# Altium footprint library Package_SO.PcbLib: 393 footprints (part 20 of 25)
Each footprint in its own frame and in the unit in brackets; x right, y up, seen from the top. Pads: shape width x height; smd on the part's side, far side on the other; paste and mask are expansions set on the pad; w line width, h text height; cw(c..) or ccw(c..) is an arc to the next point about the centre after c.
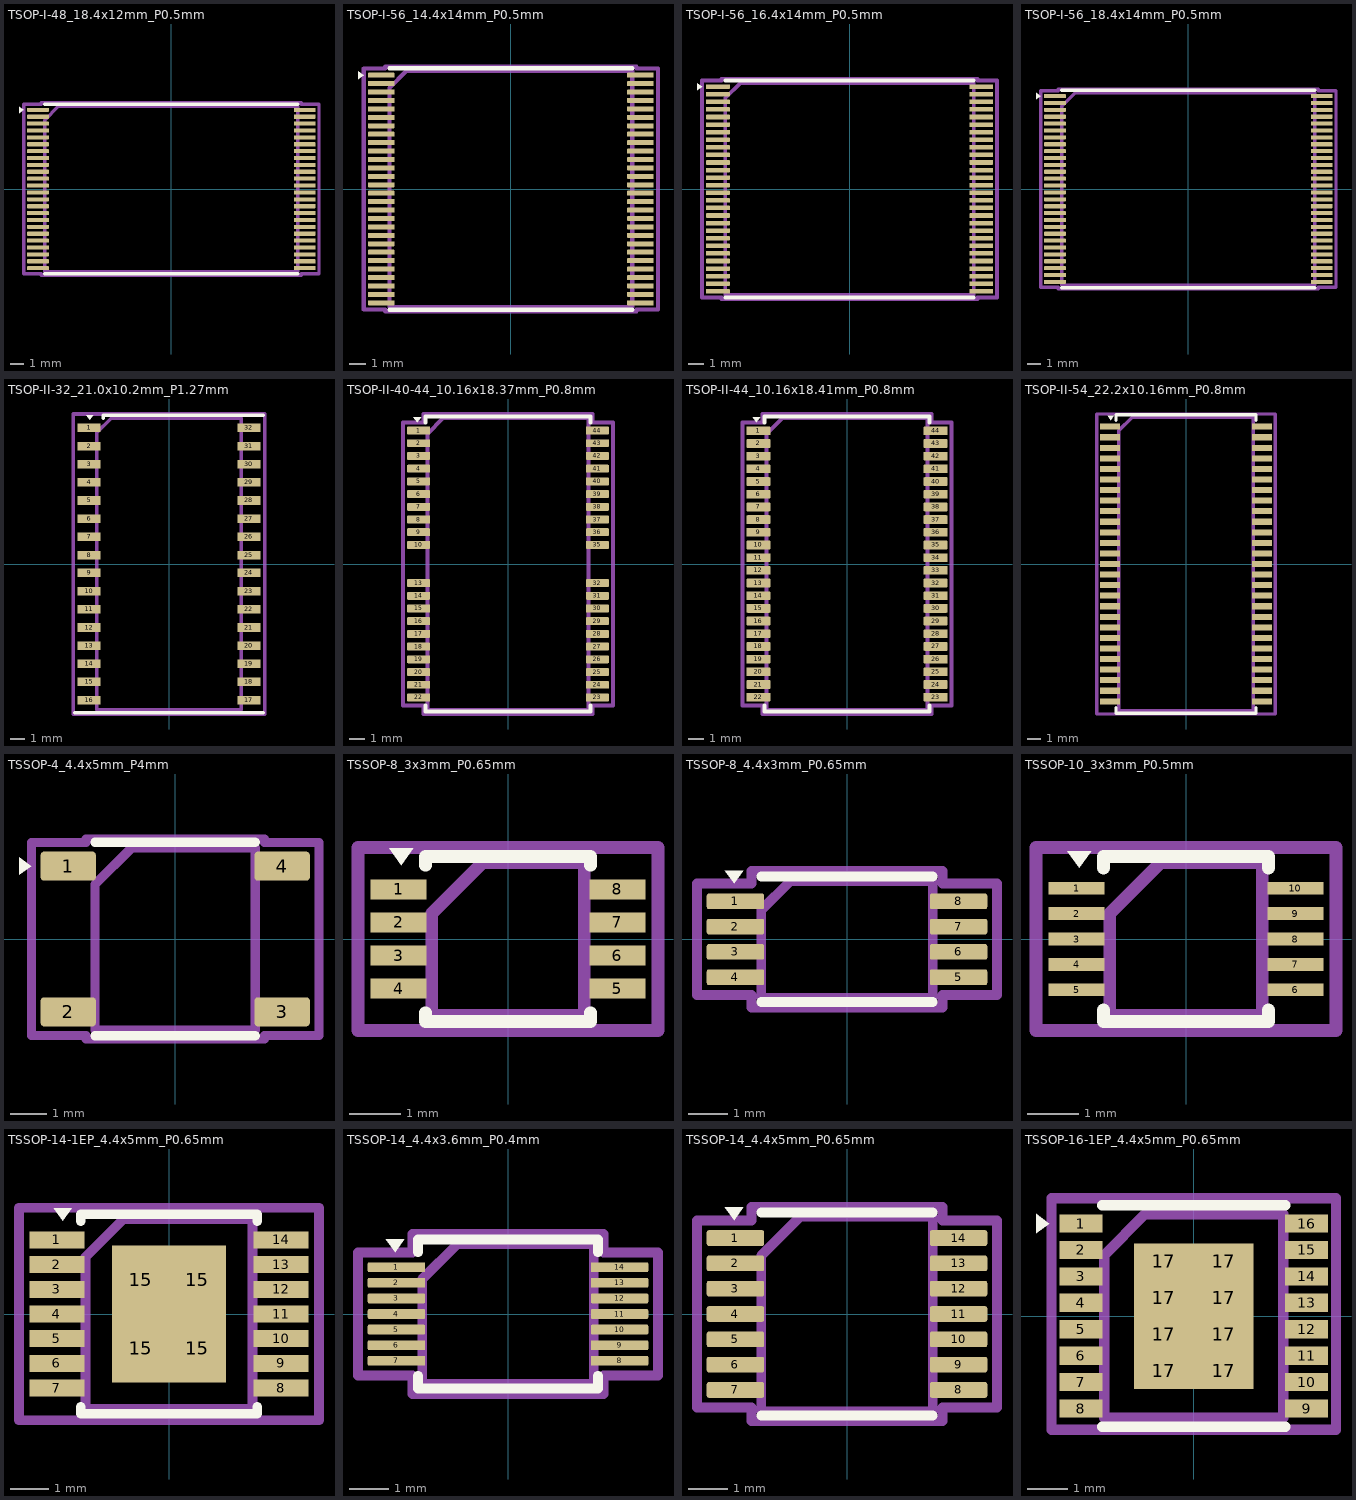
[diagram p19: the footprints below, top view; thin cyan lines are the x and y axes]

## TSOP-I-48_18.4x12mm_P0.5mm [mm]
pads (48):
  rrect25% 1.575x0.3 smd: 1(-9.687,5.75) 2(-9.687,5.25) 3(-9.687,4.75) 4(-9.687,4.25) 5(-9.687,3.75) 6(-9.687,3.25) 7(-9.687,2.75) 8(-9.687,2.25) 9(-9.687,1.75) 10(-9.687,1.25) 11(-9.687,0.75) 12(-9.687,0.25) 13(-9.687,-0.25) 14(-9.687,-0.75) 15(-9.687,-1.25) 16(-9.687,-1.75) 17(-9.687,-2.25) 18(-9.687,-2.75) 19(-9.687,-3.25) 20(-9.687,-3.75) 21(-9.687,-4.25) 22(-9.687,-4.75) 23(-9.687,-5.25) 24(-9.687,-5.75) 25(9.687,-5.75) 26(9.687,-5.25) 27(9.687,-4.75) 28(9.687,-4.25) 29(9.687,-3.75) 30(9.687,-3.25) 31(9.687,-2.75) 32(9.687,-2.25) 33(9.687,-1.75) 34(9.687,-1.25) 35(9.687,-0.75) 36(9.687,-0.25) 37(9.687,0.25) 38(9.687,0.75) 39(9.687,1.25) 40(9.687,1.75) 41(9.687,2.25) 42(9.687,2.75) 43(9.687,3.25) 44(9.687,3.75) 45(9.687,4.25) 46(9.687,4.75) 47(9.687,5.25) 48(9.687,5.75)
F.SilkS:
  region: -10.735,5.75 -11.065,5.51 -11.065,5.99
  lines w0.254: -9.2,-6.16 0,-6.16 9.2,-6.16 ; -9.2,6.16 0,6.16 9.2,6.16
Top Assembly:
  lines w0.254: -9.2,-6 9.2,-6 9.2,6 -8.2,6 -9.2,5 -9.2,-6
  text "'.Designator'" at -4.047,-0.84 h1
Top Courtyard:
  lines w0.254: -10.73,-6.15 -9.45,-6.15 -9.45,-6.25 9.45,-6.25 9.45,-6.15 10.73,-6.15 10.73,6.15 9.45,6.15 9.45,6.25 -9.45,6.25 -9.45,6.15 -10.73,6.15 -10.73,-6.15
Top Designator:
  text ".Designator" at -7.722,-0.508 h1.52

## TSOP-I-56_14.4x14mm_P0.5mm [mm]
pads (56):
  rrect25% 1.575x0.3 smd: 1(-7.688,6.75) 2(-7.688,6.25) 3(-7.688,5.75) 4(-7.688,5.25) 5(-7.688,4.75) 6(-7.688,4.25) 7(-7.688,3.75) 8(-7.688,3.25) 9(-7.688,2.75) 10(-7.688,2.25) 11(-7.688,1.75) 12(-7.688,1.25) 13(-7.688,0.75) 14(-7.688,0.25) 15(-7.688,-0.25) 16(-7.688,-0.75) 17(-7.688,-1.25) 18(-7.688,-1.75) 19(-7.688,-2.25) 20(-7.688,-2.75) 21(-7.688,-3.25) 22(-7.688,-3.75) 23(-7.688,-4.25) 24(-7.688,-4.75) 25(-7.688,-5.25) 26(-7.688,-5.75) 27(-7.688,-6.25) 28(-7.688,-6.75) 29(7.688,-6.75) 30(7.688,-6.25) 31(7.688,-5.75) 32(7.688,-5.25) 33(7.688,-4.75) 34(7.688,-4.25) 35(7.688,-3.75) 36(7.688,-3.25) 37(7.688,-2.75) 38(7.688,-2.25) 39(7.688,-1.75) 40(7.688,-1.25) 41(7.688,-0.75) 42(7.688,-0.25) 43(7.688,0.25) 44(7.688,0.75) 45(7.688,1.25) 46(7.688,1.75) 47(7.688,2.25) 48(7.688,2.75) 49(7.688,3.25) 50(7.688,3.75) 51(7.688,4.25) 52(7.688,4.75) 53(7.688,5.25) 54(7.688,5.75) 55(7.688,6.25) 56(7.688,6.75)
F.SilkS:
  region: -8.735,6.75 -9.065,6.51 -9.065,6.99
  lines w0.254: -7.2,-7.16 0,-7.16 7.2,-7.16 ; -7.2,7.16 0,7.16 7.2,7.16
Top Assembly:
  lines w0.254: -7.2,-7 7.2,-7 7.2,7 -6.2,7 -7.2,6 -7.2,-7
  text "'.Designator'" at -4.047,-0.84 h1
Top Courtyard:
  lines w0.254: -8.73,-7.15 -7.45,-7.15 -7.45,-7.25 7.45,-7.25 7.45,-7.15 8.73,-7.15 8.73,7.15 7.45,7.15 7.45,7.25 -7.45,7.25 -7.45,7.15 -8.73,7.15 -8.73,-7.15
Top Designator:
  text ".Designator" at -7.722,-0.508 h1.52

## TSOP-I-56_16.4x14mm_P0.5mm [mm]
pads (56):
  rrect25% 1.575x0.3 smd: 1(-8.688,6.75) 2(-8.688,6.25) 3(-8.688,5.75) 4(-8.688,5.25) 5(-8.688,4.75) 6(-8.688,4.25) 7(-8.688,3.75) 8(-8.688,3.25) 9(-8.688,2.75) 10(-8.688,2.25) 11(-8.688,1.75) 12(-8.688,1.25) 13(-8.688,0.75) 14(-8.688,0.25) 15(-8.688,-0.25) 16(-8.688,-0.75) 17(-8.688,-1.25) 18(-8.688,-1.75) 19(-8.688,-2.25) 20(-8.688,-2.75) 21(-8.688,-3.25) 22(-8.688,-3.75) 23(-8.688,-4.25) 24(-8.688,-4.75) 25(-8.688,-5.25) 26(-8.688,-5.75) 27(-8.688,-6.25) 28(-8.688,-6.75) 29(8.688,-6.75) 30(8.688,-6.25) 31(8.688,-5.75) 32(8.688,-5.25) 33(8.688,-4.75) 34(8.688,-4.25) 35(8.688,-3.75) 36(8.688,-3.25) 37(8.688,-2.75) 38(8.688,-2.25) 39(8.688,-1.75) 40(8.688,-1.25) 41(8.688,-0.75) 42(8.688,-0.25) 43(8.688,0.25) 44(8.688,0.75) 45(8.688,1.25) 46(8.688,1.75) 47(8.688,2.25) 48(8.688,2.75) 49(8.688,3.25) 50(8.688,3.75) 51(8.688,4.25) 52(8.688,4.75) 53(8.688,5.25) 54(8.688,5.75) 55(8.688,6.25) 56(8.688,6.75)
F.SilkS:
  region: -9.735,6.75 -10.065,6.51 -10.065,6.99
  lines w0.254: -8.2,-7.16 0,-7.16 8.2,-7.16 ; -8.2,7.16 0,7.16 8.2,7.16
Top Assembly:
  lines w0.254: -8.2,-7 8.2,-7 8.2,7 -7.2,7 -8.2,6 -8.2,-7
  text "'.Designator'" at -4.047,-0.84 h1
Top Courtyard:
  lines w0.254: -9.73,-7.15 -8.45,-7.15 -8.45,-7.25 8.45,-7.25 8.45,-7.15 9.73,-7.15 9.73,7.15 8.45,7.15 8.45,7.25 -8.45,7.25 -8.45,7.15 -9.73,7.15 -9.73,-7.15
Top Designator:
  text ".Designator" at -7.722,-0.508 h1.52

## TSOP-I-56_18.4x14mm_P0.5mm [mm]
pads (56):
  rrect25% 1.575x0.3 smd: 1(-9.687,6.75) 2(-9.687,6.25) 3(-9.687,5.75) 4(-9.687,5.25) 5(-9.687,4.75) 6(-9.687,4.25) 7(-9.687,3.75) 8(-9.687,3.25) 9(-9.687,2.75) 10(-9.687,2.25) 11(-9.687,1.75) 12(-9.687,1.25) 13(-9.687,0.75) 14(-9.687,0.25) 15(-9.687,-0.25) 16(-9.687,-0.75) 17(-9.687,-1.25) 18(-9.687,-1.75) 19(-9.687,-2.25) 20(-9.687,-2.75) 21(-9.687,-3.25) 22(-9.687,-3.75) 23(-9.687,-4.25) 24(-9.687,-4.75) 25(-9.687,-5.25) 26(-9.687,-5.75) 27(-9.687,-6.25) 28(-9.687,-6.75) 29(9.687,-6.75) 30(9.687,-6.25) 31(9.687,-5.75) 32(9.687,-5.25) 33(9.687,-4.75) 34(9.687,-4.25) 35(9.687,-3.75) 36(9.687,-3.25) 37(9.687,-2.75) 38(9.687,-2.25) 39(9.687,-1.75) 40(9.687,-1.25) 41(9.687,-0.75) 42(9.687,-0.25) 43(9.687,0.25) 44(9.687,0.75) 45(9.687,1.25) 46(9.687,1.75) 47(9.687,2.25) 48(9.687,2.75) 49(9.687,3.25) 50(9.687,3.75) 51(9.687,4.25) 52(9.687,4.75) 53(9.687,5.25) 54(9.687,5.75) 55(9.687,6.25) 56(9.687,6.75)
F.SilkS:
  region: -10.735,6.75 -11.065,6.51 -11.065,6.99
  lines w0.254: -9.2,-7.16 0,-7.16 9.2,-7.16 ; -9.2,7.16 0,7.16 9.2,7.16
Top Assembly:
  lines w0.254: -9.2,-7 9.2,-7 9.2,7 -8.2,7 -9.2,6 -9.2,-7
  text "'.Designator'" at -4.047,-0.84 h1
Top Courtyard:
  lines w0.254: -10.73,-7.15 -9.45,-7.15 -9.45,-7.25 9.45,-7.25 9.45,-7.15 10.73,-7.15 10.73,7.15 9.45,7.15 9.45,7.25 -9.45,7.25 -9.45,7.15 -10.73,7.15 -10.73,-7.15
Top Designator:
  text ".Designator" at -7.722,-0.508 h1.52

## TSOP-II-32_21.0x10.2mm_P1.27mm [mm]
pads (32):
  rect 1.6x0.6 smd: 1(-5.6,9.525) 2(-5.6,8.255) 3(-5.6,6.985) 4(-5.6,5.715) 5(-5.6,4.445) 6(-5.6,3.175) 7(-5.6,1.905) 8(-5.6,0.625) 9(-5.6,-0.625) 10(-5.6,-1.905) 11(-5.6,-3.175) 12(-5.6,-4.445) 13(-5.6,-5.715) 14(-5.6,-6.985) 15(-5.6,-8.255) 16(-5.6,-9.525) 17(5.6,-9.525) 18(5.6,-8.255) 19(5.6,-6.985) 20(5.6,-5.715) 21(5.6,-4.445) 22(5.6,-3.175) 23(5.6,-1.905) 24(5.6,-0.625) 25(5.6,0.625) 26(5.6,1.905) 27(5.6,3.175) 28(5.6,4.445) 29(5.6,5.715) 30(5.6,6.985) 31(5.6,8.255) 32(5.6,9.525)
F.SilkS:
  region: -5.55,10.092 -5.79,10.422 -5.31,10.422
  lines w0.254: -6.6,-10.4 6.6,-10.4 ; -4.6,10.2 -4.6,10.4 6.6,10.4
Top Assembly:
  lines w0.254: -5.05,-10.2 5.05,-10.2 5.05,10.2 -4.05,10.2 -5.05,9.2 -5.05,-10.2
  text "'.Designator'" at -3.267,-0.702 h0.8
Top Courtyard:
  lines w0.254: -6.7,-10.5 6.7,-10.5 6.7,10.5 -6.7,10.5 -6.7,-10.5
Top Designator:
  text ".Designator" at -7.618,-0.508 h1.52

## TSOP-II-40-44_10.16x18.37mm_P0.8mm [mm]
pads (40):
  rrect25% 1.45x0.5 smd: 1(-5.625,8.4) 2(-5.625,7.6) 3(-5.625,6.8) 4(-5.625,6) 5(-5.625,5.2) 6(-5.625,4.4) 7(-5.625,3.6) 8(-5.625,2.8) 9(-5.625,2) 10(-5.625,1.2) 13(-5.625,-1.2) 14(-5.625,-2) 15(-5.625,-2.8) 16(-5.625,-3.6) 17(-5.625,-4.4) 18(-5.625,-5.2) 19(-5.625,-6) 20(-5.625,-6.8) 21(-5.625,-7.6) 22(-5.625,-8.4) 23(5.625,-8.4) 24(5.625,-7.6) 25(5.625,-6.8) 26(5.625,-6) 27(5.625,-5.2) 28(5.625,-4.4) 29(5.625,-3.6) 30(5.625,-2.8) 31(5.625,-2) 32(5.625,-1.2) 35(5.625,1.2) 36(5.625,2) 37(5.625,2.8) 38(5.625,3.6) 39(5.625,4.4) 40(5.625,5.2) 41(5.625,6) 42(5.625,6.8) 43(5.625,7.6) 44(5.625,8.4)
F.SilkS:
  region: -5.715,8.91 -5.955,9.24 -5.475,9.24
  lines w0.254: -5.19,-8.91 -5.19,-9.295 0,-9.295 5.19,-9.295 5.19,-8.91 ; -5.19,8.91 -5.19,9.295 0,9.295 5.19,9.295 5.19,8.91
Top Assembly:
  lines w0.254: -5.08,-9.185 5.08,-9.185 5.08,9.185 -4.08,9.185 -5.08,8.185 -5.08,-9.185
  text "'.Designator'" at -4.047,-0.84 h1
Top Courtyard:
  lines w0.254: -6.6,-8.9 -5.33,-8.9 -5.33,-9.44 5.33,-9.44 5.33,-8.9 6.6,-8.9 6.6,8.9 5.33,8.9 5.33,9.44 -5.33,9.44 -5.33,8.9 -6.6,8.9 -6.6,-8.9
Top Designator:
  text ".Designator" at -7.618,-0.508 h1.52

## TSOP-II-44_10.16x18.41mm_P0.8mm [mm]
pads (44):
  rrect25% 1.525x0.55 smd: 1(-5.587,8.4) 2(-5.587,7.6) 3(-5.587,6.8) 4(-5.587,6) 5(-5.587,5.2) 6(-5.587,4.4) 7(-5.587,3.6) 8(-5.587,2.8) 9(-5.587,2) 10(-5.587,1.2) 11(-5.587,0.4) 12(-5.587,-0.4) 13(-5.587,-1.2) 14(-5.587,-2) 15(-5.587,-2.8) 16(-5.587,-3.6) 17(-5.587,-4.4) 18(-5.587,-5.2) 19(-5.587,-6) 20(-5.587,-6.8) 21(-5.587,-7.6) 22(-5.587,-8.4) 23(5.587,-8.4) 24(5.587,-7.6) 25(5.587,-6.8) 26(5.587,-6) 27(5.587,-5.2) 28(5.587,-4.4) 29(5.587,-3.6) 30(5.587,-2.8) 31(5.587,-2) 32(5.587,-1.2) 33(5.587,-0.4) 34(5.587,0.4) 35(5.587,1.2) 36(5.587,2) 37(5.587,2.8) 38(5.587,3.6) 39(5.587,4.4) 40(5.587,5.2) 41(5.587,6) 42(5.587,6.8) 43(5.587,7.6) 44(5.587,8.4)
F.SilkS:
  region: -5.715,8.935 -5.955,9.265 -5.475,9.265
  lines w0.254: -5.19,-8.935 -5.19,-9.315 0,-9.315 5.19,-9.315 5.19,-8.935 ; -5.19,8.935 -5.19,9.315 0,9.315 5.19,9.315 5.19,8.935
Top Assembly:
  lines w0.254: -5.08,-9.205 5.08,-9.205 5.08,9.205 -4.08,9.205 -5.08,8.205 -5.08,-9.205
  text "'.Designator'" at -4.047,-0.84 h1
Top Courtyard:
  lines w0.254: -6.6,-8.93 -5.33,-8.93 -5.33,-9.46 5.33,-9.46 5.33,-8.93 6.6,-8.93 6.6,8.93 5.33,8.93 5.33,9.46 -5.33,9.46 -5.33,8.93 -6.6,8.93 -6.6,-8.93
Top Designator:
  text ".Designator" at -7.618,-0.508 h1.52

## TSOP-II-54_22.2x10.16mm_P0.8mm [mm]
pads (54):
  rect 1.51x0.458 smd: 1(-5.75,10.4) 2(-5.75,9.6) 3(-5.75,8.8) 4(-5.75,8) 5(-5.75,7.2) 6(-5.75,6.4) 7(-5.75,5.6) 8(-5.75,4.8) 9(-5.75,4) 10(-5.75,3.2) 11(-5.75,2.4) 12(-5.75,1.6) 13(-5.75,0.8) 14(-5.75,0) 15(-5.75,-0.8) 16(-5.75,-1.6) 17(-5.75,-2.4) 18(-5.75,-3.2) 19(-5.75,-4) 20(-5.75,-4.8) 21(-5.75,-5.6) 22(-5.75,-6.4) 23(-5.75,-7.2) 24(-5.75,-8) 25(-5.75,-8.8) 26(-5.75,-9.6) 27(-5.75,-10.4) 28(5.75,-10.4) 29(5.75,-9.6) 30(5.75,-8.8) 31(5.75,-8) 32(5.75,-7.2) 33(5.75,-6.4) 34(5.75,-5.6) 35(5.75,-4.8) 36(5.75,-4) 37(5.75,-3.2) 38(5.75,-2.4) 39(5.75,-1.6) 40(5.75,-0.8) 41(5.75,0) 42(5.75,0.8) 43(5.75,1.6) 44(5.75,2.4) 45(5.75,3.2) 46(5.75,4) 47(5.75,4.8) 48(5.75,5.6) 49(5.75,6.4) 50(5.75,7.2) 51(5.75,8) 52(5.75,8.8) 53(5.75,9.6) 54(5.75,10.4)
F.SilkS:
  region: -5.7,10.9 -5.94,11.23 -5.46,11.23
  lines w0.254: -5.3,-10.9 -5.3,-11.3 5.3,-11.3 5.3,-10.9 ; -5.3,10.9 -5.3,11.3 5.3,11.3 5.3,10.9
Top Assembly:
  lines w0.254: -5.08,-11.11 5.08,-11.11 5.08,11.11 -4.08,11.11 -5.08,10.11 -5.08,-11.11
  text "'.Designator'" at -4.047,-0.84 h1
Top Courtyard:
  lines w0.254: -6.76,-11.36 6.76,-11.36 6.76,11.36 -6.76,11.36 -6.76,-11.36
Top Designator:
  text ".Designator" at -7.618,-0.508 h1.52

## TSSOP-4_4.4x5mm_P4mm [mm]
pads (4):
  rrect25% 1.525x0.8 smd: 1(-2.937,2) 2(-2.937,-2) 3(2.937,-2) 4(2.937,2)
F.SilkS:
  region: -3.96,2 -4.29,1.76 -4.29,2.24
  lines w0.254: -2.2,-2.66 0,-2.66 2.2,-2.66 ; -2.2,2.66 0,2.66 2.2,2.66
Top Assembly:
  lines w0.254: -2.2,-2.5 2.2,-2.5 2.2,2.5 -1.2,2.5 -2.2,1.5 -2.2,-2.5
  text "'.Designator'" at -4.047,-0.84 h1
Top Courtyard:
  lines w0.254: -3.95,-2.65 -2.45,-2.65 -2.45,-2.75 2.45,-2.75 2.45,-2.65 3.95,-2.65 3.95,2.65 2.45,2.65 2.45,2.75 -2.45,2.75 -2.45,2.65 -3.95,2.65 -3.95,-2.65
Top Designator:
  text ".Designator" at -7.724,-0.508 h1.52

## TSSOP-8_3x3mm_P0.65mm [mm]
pads (8):
  rect 1.1x0.4 smd: 1(-2.15,0.975) 2(-2.15,0.325) 3(-2.15,-0.325) 4(-2.15,-0.975) 5(2.15,-0.975) 6(2.15,-0.325) 7(2.15,0.325) 8(2.15,0.975)
F.SilkS:
  region: -2.1,1.45 -2.34,1.78 -1.86,1.78
  lines w0.254: -1.625,-1.45 -1.625,-1.625 1.625,-1.625 1.625,-1.45 ; -1.625,1.45 -1.625,1.625 1.625,1.625 1.625,1.45
Top Assembly:
  lines w0.254: -1.5,-1.5 1.5,-1.5 1.5,1.5 -0.5,1.5 -1.5,0.5 -1.5,-1.5
  text "'.Designator'" at -2.488,-0.564 h0.6
Top Courtyard:
  lines w0.254: -2.95,-1.8 2.95,-1.8 2.95,1.8 -2.95,1.8 -2.95,-1.8
Top Designator:
  text ".Designator" at -7.618,-0.508 h1.52

## TSSOP-8_4.4x3mm_P0.65mm [mm]
pads (8):
  rrect25% 1.475x0.4 smd: 1(-2.863,0.975) 2(-2.863,0.325) 3(-2.863,-0.325) 4(-2.863,-0.975) 5(2.863,-0.975) 6(2.863,-0.325) 7(2.863,0.325) 8(2.863,0.975)
F.SilkS:
  region: -2.9,1.435 -3.14,1.765 -2.66,1.765
  lines w0.254: -2.2,-1.61 0,-1.61 2.2,-1.61 ; -2.2,1.61 0,1.61 2.2,1.61
Top Assembly:
  lines w0.254: -2.2,-1.5 2.2,-1.5 2.2,1.5 -1.45,1.5 -2.2,0.75 -2.2,-1.5
  text "'.Designator'" at -4.047,-0.84 h1
Top Courtyard:
  lines w0.254: -3.85,-1.43 -2.45,-1.43 -2.45,-1.75 2.45,-1.75 2.45,-1.43 3.85,-1.43 3.85,1.43 2.45,1.43 2.45,1.75 -2.45,1.75 -2.45,1.43 -3.85,1.43 -3.85,-1.43
Top Designator:
  text ".Designator" at -7.727,-0.508 h1.52

## TSSOP-10_3x3mm_P0.5mm [mm]
pads (10):
  rect 1.1x0.25 smd: 1(-2.15,1) 2(-2.15,0.5) 3(-2.15,0) 4(-2.15,-0.5) 5(-2.15,-1) 6(2.15,-1) 7(2.15,-0.5) 8(2.15,0) 9(2.15,0.5) 10(2.15,1)
F.SilkS:
  region: -2.1,1.4 -2.34,1.73 -1.86,1.73
  lines w0.254: -1.625,-1.4 -1.625,-1.625 1.625,-1.625 1.625,-1.4 ; -1.625,1.4 -1.625,1.625 1.625,1.625 1.625,1.4
Top Assembly:
  lines w0.254: -1.5,-1.5 1.5,-1.5 1.5,1.5 -0.5,1.5 -1.5,0.5 -1.5,-1.5
  text "'.Designator'" at -2.438,-0.514 h0.6
Top Courtyard:
  lines w0.254: -2.95,-1.8 2.95,-1.8 2.95,1.8 -2.95,1.8 -2.95,-1.8
Top Designator:
  text ".Designator" at -7.618,-0.508 h1.52

## TSSOP-14-1EP_4.4x5mm_P0.65mm [mm]
pads (18):
  rect 1.45x0.45 smd: 1(-2.95,1.95) 2(-2.95,1.3) 3(-2.95,0.65) 4(-2.95,0) 5(-2.95,-0.65) 6(-2.95,-1.3) 7(-2.95,-1.95) 8(2.95,-1.95) 9(2.95,-1.3) 10(2.95,-0.65) 11(2.95,0) 12(2.95,0.65) 13(2.95,1.3) 14(2.95,1.95)
  rect 1.5x1.8 smd: 15(-0.75,-0.9) 15(-0.75,0.9) 15(0.75,-0.9) 15(0.75,0.9)
F.SilkS:
  region: -2.8,2.45 -3.04,2.78 -2.56,2.78
  lines w0.254: -2.325,-2.45 -2.325,-2.625 2.325,-2.625 2.325,-2.45 ; -2.325,2.45 -2.325,2.625 2.325,2.625 2.325,2.45
Top Assembly:
  lines w0.254: -2.2,-2.5 2.2,-2.5 2.2,2.5 -1.2,2.5 -2.2,1.5 -2.2,-2.5
  text "'.Designator'" at -3.267,-0.702 h0.8
Top Courtyard:
  lines w0.254: -3.95,-2.8 3.95,-2.8 3.95,2.8 -3.95,2.8 -3.95,-2.8
Top Designator:
  text ".Designator" at -7.618,-0.508 h1.52

## TSSOP-14_4.4x3.6mm_P0.4mm [mm]
pads (14):
  rrect25% 1.475x0.25 smd: 1(-2.863,1.2) 2(-2.863,0.8) 3(-2.863,0.4) 4(-2.863,0) 5(-2.863,-0.4) 6(-2.863,-0.8) 7(-2.863,-1.2) 8(2.863,-1.2) 9(2.863,-0.8) 10(2.863,-0.4) 11(2.863,0) 12(2.863,0.4) 13(2.863,0.8) 14(2.863,1.2)
F.SilkS:
  region: -2.9,1.585 -3.14,1.915 -2.66,1.915
  lines w0.254: -2.31,-1.585 -2.31,-1.91 0,-1.91 2.31,-1.91 2.31,-1.585 ; -2.31,1.585 -2.31,1.91 0,1.91 2.31,1.91 2.31,1.585
Top Assembly:
  lines w0.254: -2.2,-1.8 2.2,-1.8 2.2,1.8 -1.3,1.8 -2.2,0.9 -2.2,-1.8
  text "'.Designator'" at -4.047,-0.84 h1
Top Courtyard:
  lines w0.254: -3.85,-1.58 -2.45,-1.58 -2.45,-2.05 2.45,-2.05 2.45,-1.58 3.85,-1.58 3.85,1.58 2.45,1.58 2.45,2.05 -2.45,2.05 -2.45,1.58 -3.85,1.58 -3.85,-1.58
Top Designator:
  text ".Designator" at -7.727,-0.508 h1.52

## TSSOP-14_4.4x5mm_P0.65mm [mm]
pads (14):
  rrect25% 1.475x0.4 smd: 1(-2.863,1.95) 2(-2.863,1.3) 3(-2.863,0.65) 4(-2.863,0) 5(-2.863,-0.65) 6(-2.863,-1.3) 7(-2.863,-1.95) 8(2.863,-1.95) 9(2.863,-1.3) 10(2.863,-0.65) 11(2.863,0) 12(2.863,0.65) 13(2.863,1.3) 14(2.863,1.95)
F.SilkS:
  region: -2.9,2.41 -3.14,2.74 -2.66,2.74
  lines w0.254: -2.2,-2.61 0,-2.61 2.2,-2.61 ; -2.2,2.61 0,2.61 2.2,2.61
Top Assembly:
  lines w0.254: -2.2,-2.5 2.2,-2.5 2.2,2.5 -1.2,2.5 -2.2,1.5 -2.2,-2.5
  text "'.Designator'" at -4.047,-0.84 h1
Top Courtyard:
  lines w0.254: -3.85,-2.4 -2.45,-2.4 -2.45,-2.75 2.45,-2.75 2.45,-2.4 3.85,-2.4 3.85,2.4 2.45,2.4 2.45,2.75 -2.45,2.75 -2.45,2.4 -3.85,2.4 -3.85,-2.4
Top Designator:
  text ".Designator" at -7.727,-0.508 h1.52

## TSSOP-16-1EP_4.4x5mm_P0.65mm [mm]
pads (24):
  rect 1.05x0.45 smd: 1(-2.775,2.275) 2(-2.775,1.625) 3(-2.775,0.975) 4(-2.775,0.325) 5(-2.775,-0.325) 6(-2.775,-0.975) 7(-2.775,-1.625) 8(-2.775,-2.275) 9(2.775,-2.275) 10(2.775,-1.625) 11(2.775,-0.975) 12(2.775,-0.325) 13(2.775,0.325) 14(2.775,0.975) 15(2.775,1.625) 16(2.775,2.275)
  rect 1.47x0.895 smd: 17(-0.735,-1.342) 17(-0.735,-0.447) 17(-0.735,0.447) 17(-0.735,1.342) 17(0.735,-1.342) 17(0.735,-0.447) 17(0.735,0.447) 17(0.735,1.342)
F.SilkS:
  region: -3.55,2.275 -3.88,2.035 -3.88,2.515
  lines w0.254: -2.25,-2.725 2.25,-2.725 ; -2.25,2.725 2.25,2.725
Top Assembly:
  lines w0.254: -2.2,-2.5 2.2,-2.5 2.2,2.5 -1.2,2.5 -2.2,1.5 -2.2,-2.5
  text "'.Designator'" at -3.267,-0.702 h0.8
Top Courtyard:
  lines w0.254: -3.5,-2.8 3.5,-2.8 3.5,2.9 -3.5,2.9 -3.5,-2.8
Top Designator:
  text ".Designator" at -7.744,-0.458 h1.52